# Altium footprint library Devices.PcbLib: 8 footprints
Each footprint in its own frame and in the unit in brackets; x right, y up, seen from the top. Pads: shape width x height; smd on the part's side, far side on the other; paste and mask are expansions set on the pad; w line width, h text height; cw(c..) or ccw(c..) is an arc to the next point about the centre after c.
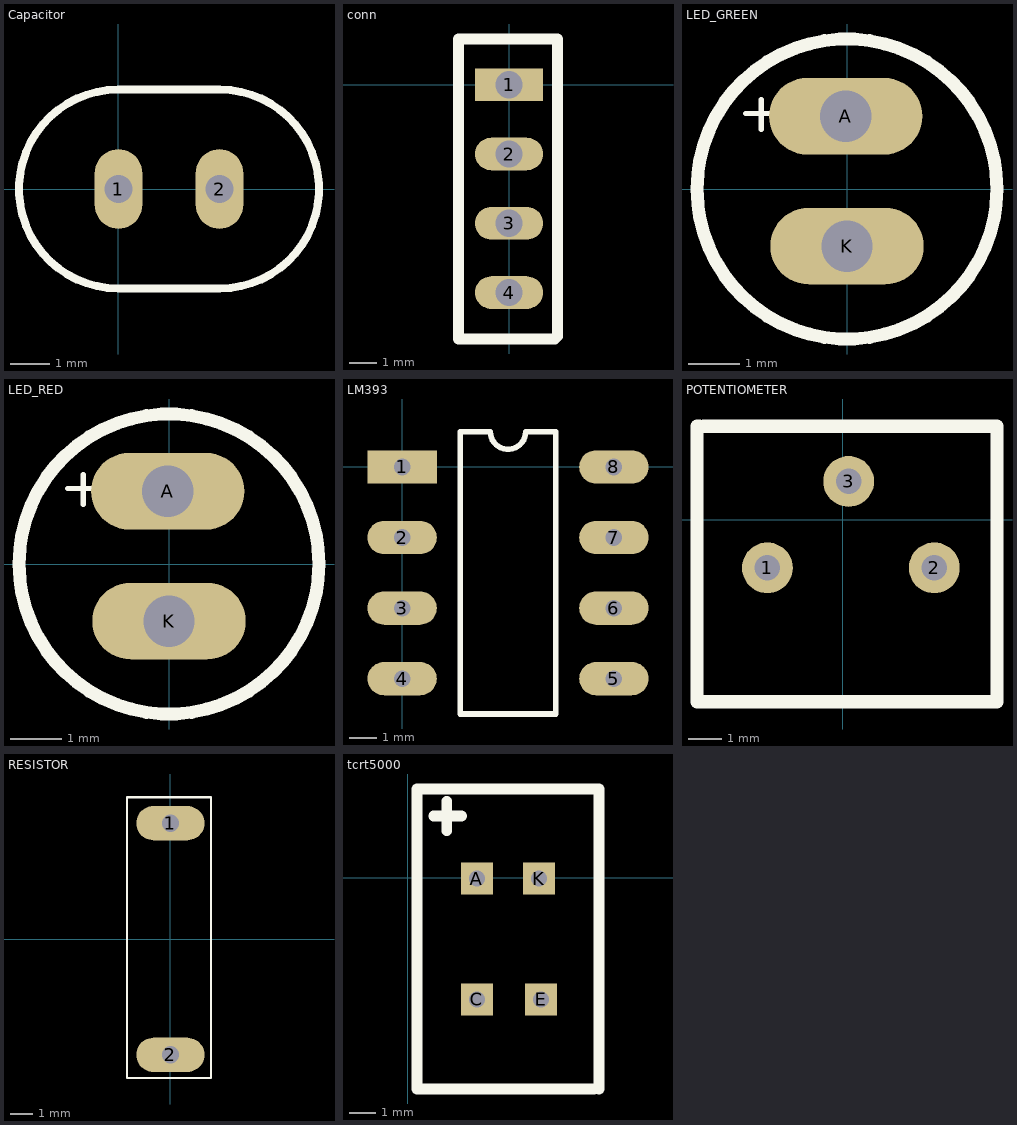
[diagram p0: the footprints below, top view; thin cyan lines are the x and y axes]

## Capacitor [mm]
pads (2):
  oval 1.2x2 hole 0.7: 1(0,0) 2(2.54,0)
Top Overlay:
  lines w0.2: 0,-2.5 cw(c0,0) 0,2.5 2.54,2.5 cw(c2.54,0) 2.54,-2.5 0,-2.5
3D body "User Library-Ceramic Capacitor 5x3_75mm.STEP": height 5, standoff -3.96, extent -1.239,-0.949 3.678,1.051

## conn [mm]
pads (4):
  rect 2.5x1.2 hole 1: 1(0,0)
  oval 2.5x1.2 hole 1: 2(0,-2.54) 3(0,-5.08) 4(0,-7.62)
Top Overlay:
  lines w0.4: -1.854,-9.322 1.676,-9.322 1.778,-9.22 1.778,1.676 -1.473,1.676 -1.854,1.676 -1.854,-9.322
3D body "User Library-0_1inch pin strip.STEP": height 10.1, standoff -1.5, extent -1.27,-8.89 1.27,1.27

## LED_GREEN [mm]
pads (2):
  oval 3x1.5 hole 1: A(-0.025,1.422) K(0,-1.118)
Top Overlay:
  circle w0.254: c0,0 r2.932
  lines w0.1: -1.981,1.473 -1.372,1.473 ; -1.676,1.168 -1.676,1.753
3D body "CircuitWorks-GREENLED.STEP": height 5.38, standoff -3.17, extent -1.994,-1.841 1.499,2.146

## LED_RED [mm]
pads (2):
  oval 3x1.5 hole 1: A(-0.025,1.422) K(0,-1.118)
Top Overlay:
  circle w0.254: c0,0 r2.932
  lines w0.1: -1.981,1.473 -1.372,1.473 ; -1.676,1.168 -1.676,1.753
3D body "CircuitWorks-LED DIP 3MM.STEP": height 6.5, standoff -2, extent -1.9,-1.747 1.9,1.753

## LM393 [mm]
pads (8):
  rect 2.5x1.2 hole 0.6: 1(0,0)
  oval 2.5x1.2 hole 0.6: 2(0,-2.54) 3(0,-5.08) 4(0,-7.62) 5(7.62,-7.62) 6(7.62,-5.08) 7(7.62,-2.54) 8(7.62,0)
Top Overlay:
  lines w0.2: 2.085,-8.89 2.085,1.27 3.175,1.27 ccw(c3.81,1.27) 4.445,1.27 5.535,1.27 5.535,-8.89 2.085,-8.89
3D body "CircuitWorks-DIP8.STEP": height 4.19, standoff -2.67, extent -0.152,-9.525 7.722,1.905

## POTENTIOMETER [mil]
pads (3):
  round 60 hole 30: 1(-89,-57) 2(108,-57) 3(7,45)
Top Overlay:
  lines w15.75: -169,110 -172,110 -172,-215 182,-215 182,110 -164,110
3D body "User Library-3362P-1-102LF.STEP": height 173.03, standoff -118.11, extent -120.92,-183.91 138.92,75.93

## RESISTOR [mm]
pads (2):
  oval 3x1.5 hole 0.762: 1(0,5.08) 2(0,-5.08)
Top Overlay:
  lines w0.1: -1.905,-6.096 -1.905,6.223 -1.651,6.223 1.778,6.223 1.778,-6.096 -1.905,-6.096
3D body "User Library-Resistor2.STEP": height 2.37, standoff -1.85, extent -1.168,-5.283 1.169,5.41

## tcrt5000 [mm]
pads (4):
  rect 1.2x1.2 hole 0.6 square: A(2.616,-0.025) C(2.616,-4.572) E(5.029,-4.572) K(4.953,-0.025)
Top Overlay:
  lines w0.4: 0.991,2.337 2.032,2.337 ; 1.473,1.778 1.473,2.896 ; 7.01,-7.95 0.356,-7.95 0.356,3.353 7.214,3.353 7.214,-7.95
3D body "User Library-TCRT-5000.STEP": height 6.5, standoff -25.41, extent 0.885,-7.425 6.685,2.875